# Altium footprint library Adafruit PyGamer.PCBLIB: 205 footprints (part 11 of 13)
Each footprint in its own frame and in the unit in brackets; x right, y up, seen from the top. Pads: shape width x height; smd on the part's side, far side on the other; paste and mask are expansions set on the pad; w line width, h text height; cw(c..) or ccw(c..) is an arc to the next point about the centre after c.
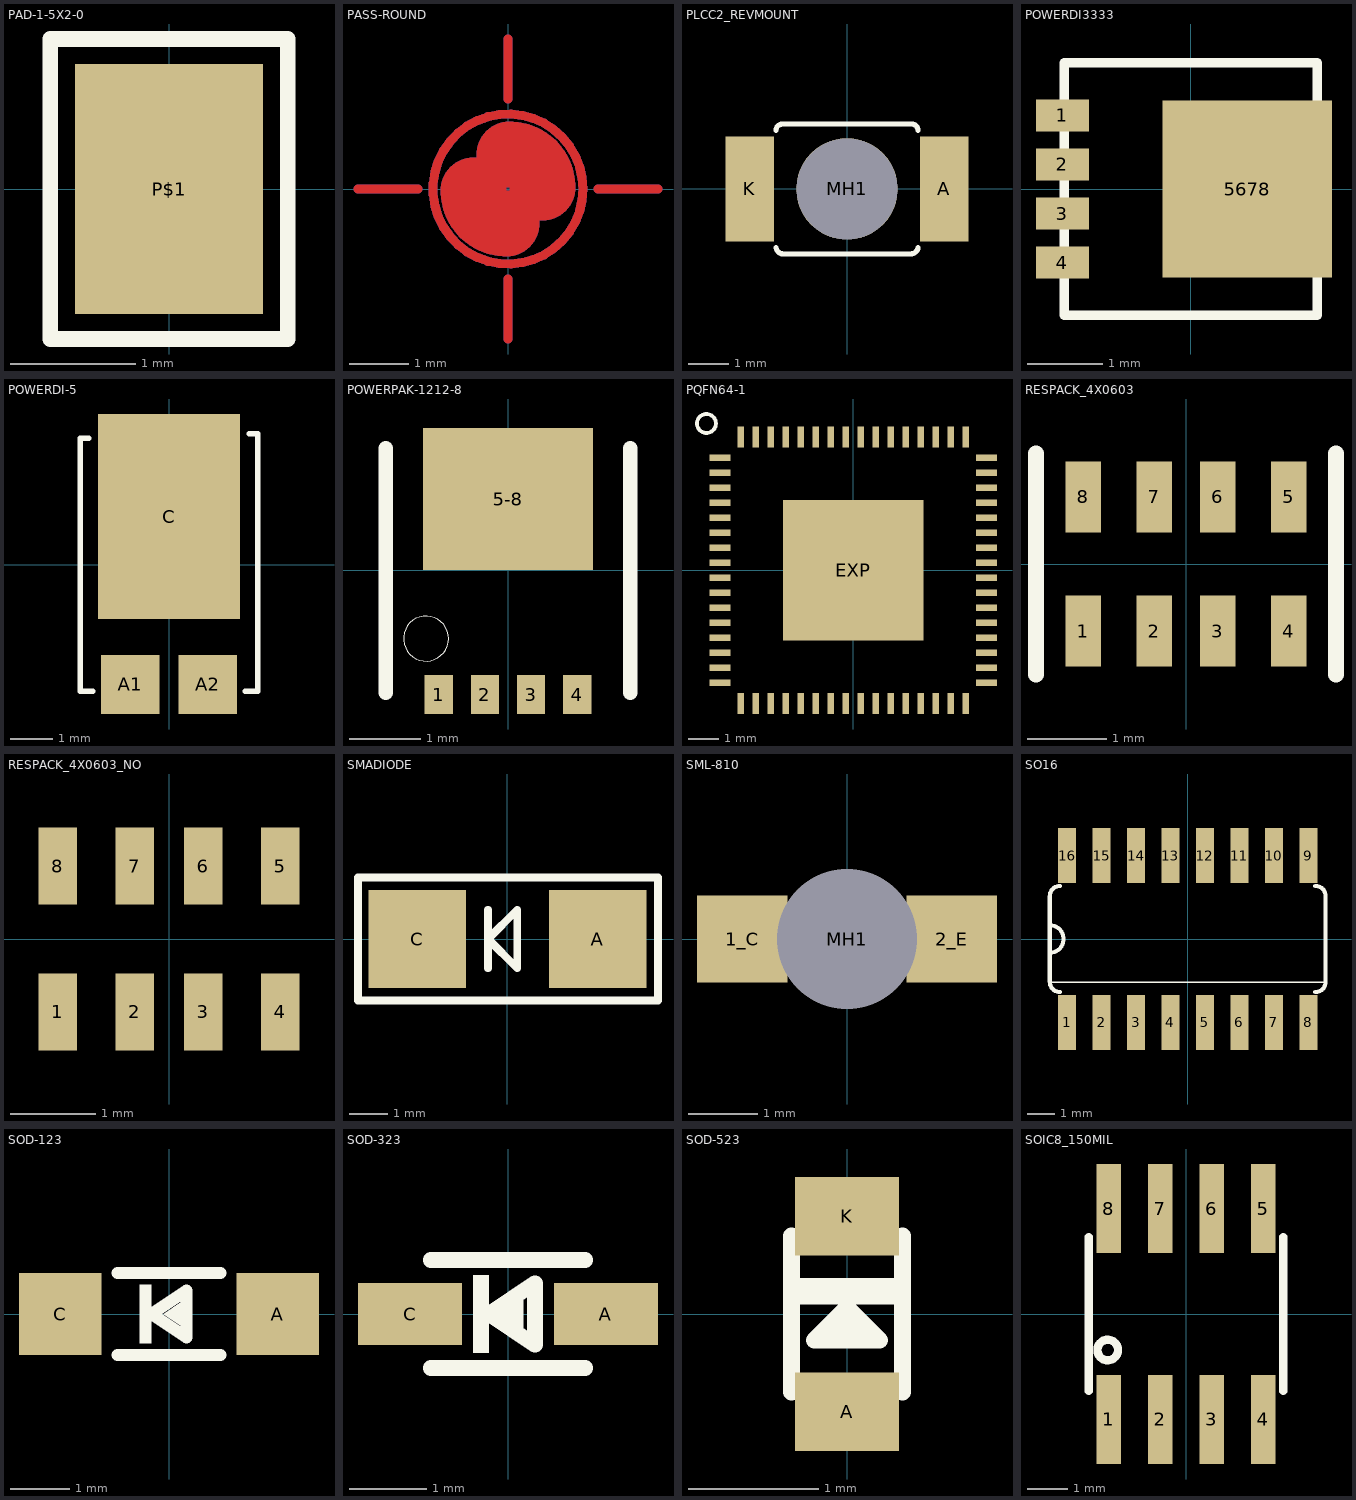
[diagram p10: the footprints below, top view; thin cyan lines are the x and y axes]

## PAD-1-5X2-0 [mm]
pads (1):
  rect 1.5x2 smd paste+0: P$1(0,0)
Top Overlay:
  lines w0.127: -0.95,-1.2 0.95,-1.2 0.95,1.2 -0.95,1.2 -0.95,-1.2

## PASS-ROUND [mil]
Top:
  circle w6: c0,0 r50
  lines w6: -100,0 -60,0 ; 0,-100 0,-60 ; 0,60 0,100 ; 60,0 100,0
  lines w44: -23,-1 ccw(c-1,-1) -1,-23 ; 1,23 cw(c1,1) 23,1
Bottom:
  circle w6: c0,0 r50
  lines w6: -100,0 -60,0 ; 0,-100 0,-60 ; 0,60 0,100 ; 60,0 100,0
  lines w44: -23,-1 ccw(c-1,-1) -1,-23 ; 1,23 cw(c1,1) 23,1

## PLCC2_REVMOUNT [mil]
pads (3):
  rect 47.24x102.36 smd: A(94.49,0) K(-94.49,0)
  round 98.43 hole 98.43 unplated: MH1(0,0)
Top Overlay:
  lines w5: -68.9,-57.09 ccw(c-62.01,-56.1) -61.02,-62.99 61.02,-62.99 ccw(c62.01,-56.1) 68.9,-57.09 ; -68.9,57.09 cw(c-62.99,57.09) -62.99,62.99 62.99,62.99 cw(c62.99,57.09) 68.9,57.09
Bottom Overlay:
  circle w5: c0,0 r48.06
  lines w5: -66.93,-45.28 -66.93,-49.21 ccw(c-57.09,-49.22) -57.09,-59.06 57.09,-59.06 ccw(c57.09,-49.22) 66.93,-49.21 66.93,-45.28 ; -66.93,-45.28 -104.33,-45.28 -104.33,45.28 -66.93,45.28 ; -66.93,-45.28 -66.93,-25.59 ; -66.93,-25.59 -66.93,25.59 ; -66.93,-25.59 -68.9,-25.59 cw(c-68.89,-21.66) -72.83,-21.65 -72.83,19.69 cw(c-66.93,19.69) -66.93,25.59 ; -66.93,25.59 -66.93,29.53 ; -66.93,29.53 -66.93,45.28 ; -66.93,29.53 -37.4,59.06 ; -66.93,45.28 -66.93,51.18 cw(c-59.05,51.19) -59.06,59.06 -37.4,59.06 ; -37.4,59.06 59.06,59.06 cw(c59.05,51.19) 66.93,51.18 66.93,45.28 ; 66.93,-45.28 106.3,-45.28 106.3,45.28 66.93,45.28 ; 66.93,-45.28 66.93,-25.59 ; 66.93,-25.59 66.93,25.59 ; 66.93,-25.59 ccw(c66.93,-19.69) 72.83,-19.69 72.83,21.65 ccw(c68.89,21.66) 68.9,25.59 66.93,25.59 ; 66.93,25.59 66.93,45.28 ; -31.5,0 ccw(c0,0) 0,-31.5 ccw(c0,0) 31.5,0 ccw(c0,0) 0,31.5 ccw(c0,0) -31.5,0

## POWERDI3333 [mm]
pads (5):
  rect 0.7x0.42 smd: 1(-1.7,0.975) 2(-1.7,0.325) 3(-1.7,-0.325) 4(-1.7,-0.975)
  rect 2.25x2.35 smd: 5678(0.75,0)
Top Overlay:
  lines w0.127: -1.675,-1.675 1.675,-1.675 1.675,1.675 -1.675,1.675 -1.675,-1.675

## POWERDI-5 [mm]
pads (3):
  rect 1.39x1.4 smd: A1(-0.92,-2.84) A2(0.92,-2.84)
  rect 3.36x4.86 smd: C(0,1.142)
Top Overlay:
  lines w0.127: -1.9,3 -2.1,3 -2.1,-3 -1.8,-3 ; 1.8,-3 2.1,-3 2.1,3.1 1.9,3.1
Bottom Overlay:
  region: -1.6,2 -1.6,2.4 1.6,2.4 1.6,2
  region: -1.5,-0.6 0,1.9 1.5,-0.6
  lines w0.127: -2,-3.25 2,-3.25 2,3.25 -2,3.25 -2,-3.25

## POWERPAK-1212-8 [mm]
pads (5):
  rect 0.4x0.55 smd: 1(-0.975,-1.75) 2(-0.325,-1.75) 3(0.325,-1.75) 4(0.975,-1.75)
  rect 2.4x2 smd: 5-8(0,1.005)
Top Overlay:
  circle w0: c-1.155,-0.961 r0.318
  lines w0.203: -1.725,-1.725 -1.725,1.725 ; 1.725,-1.725 1.725,1.725
Bottom Overlay:
  lines w0.203: -1.725,-1.725 1.725,-1.725 ; -1.725,1.725 1.725,1.725

## PQFN64-1 [mm]
pads (65):
  rect 0.7x0.22 smd: 1(-4.45,3.75) 2(-4.45,3.25) 3(-4.45,2.75) 4(-4.45,2.25) 5(-4.45,1.75) 6(-4.45,1.25) 7(-4.45,0.75) 8(-4.45,0.25) 9(-4.45,-0.25) 10(-4.45,-0.75) 11(-4.45,-1.25) 12(-4.45,-1.75) 13(-4.45,-2.25) 14(-4.45,-2.75) 15(-4.45,-3.25) 16(-4.45,-3.75) 33(4.45,-3.75) 34(4.45,-3.25) 35(4.45,-2.75) 36(4.45,-2.25) 37(4.45,-1.75) 38(4.45,-1.25) 39(4.45,-0.75) 40(4.45,-0.25) 41(4.45,0.25) 42(4.45,0.75) 43(4.45,1.25) 44(4.45,1.75) 45(4.45,2.25) 46(4.45,2.75) 47(4.45,3.25) 48(4.45,3.75)
  rect 0.22x0.7 smd: 17(-3.75,-4.45) 18(-3.25,-4.45) 19(-2.75,-4.45) 20(-2.25,-4.45) 21(-1.75,-4.45) 22(-1.25,-4.45) 23(-0.75,-4.45) 24(-0.25,-4.45) 25(0.25,-4.45) 26(0.75,-4.45) 27(1.25,-4.45) 28(1.75,-4.45) 29(2.25,-4.45) 30(2.75,-4.45) 31(3.25,-4.45) 32(3.75,-4.45) 49(3.75,4.45) 50(3.25,4.45) 51(2.75,4.45) 52(2.25,4.45) 53(1.75,4.45) 54(1.25,4.45) 55(0.75,4.45) 56(0.25,4.45) 57(-0.25,4.45) 58(-0.75,4.45) 59(-1.25,4.45) 60(-1.75,4.45) 61(-2.25,4.45) 62(-2.75,4.45) 63(-3.25,4.45) 64(-3.75,4.45)
  rect 4.7x4.7 smd paste+0: EXP(0,0)
Top Overlay:
  circle w0.127: c-4.9,4.9 r0.316
Bottom Overlay:
  circle w0: c-3.75,3.75 r0.25
  lines w0.203: -4.4,-4.4 -4.4,4.4 4.4,4.4 4.4,-4.4 -4.4,-4.4

## RESPACK_4X0603 [mil]
pads (8):
  rect 17.72x35.43 smd: 1(-51.18,-33.46) 2(-15.75,-33.46) 3(15.75,-33.46) 4(51.18,-33.46) 5(51.18,33.46) 6(15.75,33.46) 7(-15.75,33.46) 8(-51.18,33.46)
Top Overlay:
  lines w8: -74.8,-55.12 -74.8,55.12 ; 74.8,-55.12 74.8,55.12
Bottom Overlay:
  region: -61.02,-19.69 -61.02,19.69 61.02,19.69 61.02,-19.69
  lines w8: -62.99,-31.5 62.99,-31.5 62.99,31.5 -62.99,31.5 -62.99,-31.5

## RESPACK_4X0603_NO [mil]
pads (8):
  rect 17.72x35.43 smd: 1(-51.18,-33.46) 2(-15.75,-33.46) 3(15.75,-33.46) 4(51.18,-33.46) 5(51.18,33.46) 6(15.75,33.46) 7(-15.75,33.46) 8(-51.18,33.46)
Bottom Overlay:
  region: -61.02,-19.69 -61.02,19.69 61.02,19.69 61.02,-19.69
  lines w8: -62.99,-31.5 62.99,-31.5 62.99,31.5 -62.99,31.5 -62.99,-31.5

## SMADIODE [mil]
pads (2):
  rect 100x100 smd: A(92.5,0) C(-92.5,0)
Top Overlay:
  lines w8: -20,-30 -20,0 ; -20,30 -20,0 ; -20,0 10,-30 10,30 -20,0 ; -153.11,-62.99 -153.11,62.99 154.17,62.99 154.17,-62.99 -153.11,-62.99
Bottom Overlay:
  region: -111.22,-43.31 -111.22,43.31 -85.63,43.31 -85.63,-43.31
  region: 111.22,43.31 111.22,-43.31 85.63,-43.31 85.63,43.31
  region: -68.9,-48.23 -68.9,48.23 -42.32,48.23 -42.32,-48.23
  lines w8: -84.65,-51.18 84.65,-51.18 84.65,51.18 -84.65,51.18 -84.65,-51.18

## SML-810 [mm]
pads (3):
  rect 1.3x1.25 smd paste+0: 1_C(-1.5,0) 2_E(1.5,0)
  round 2 hole 2 unplated: MH1(0,0)
Bottom Overlay:
  text "C" at -2.1,-0.5 h1.57
  text "E" at 1.1,-0.5 h1.57

## SO16 [mil]
pads (16):
  rect 26x80 smd: 1(-175,-121) 2(-125,-121) 3(-75,-121) 4(-25,-121) 5(25,-121) 6(75,-121) 7(125,-121) 8(175,-121) 9(175,121) 10(125,121) 11(75,121) 12(25,121) 13(-25,121) 14(-75,121) 15(-125,121) 16(-175,121)
Top Overlay:
  lines w2: -200,-63 200,-63
  lines w6: -185,-77 cw(c-185,-62) -200,-62 -200,-20 ; -185,77 ccw(c-185,62) -200,62 -200,20 ; 185,-77 ccw(c185,-62) 200,-62 200,62 ccw(c185,62) 185,77 ; -200,-20 -200,20 ; -200,-20 ccw(c-200,0) -200,20
Bottom Overlay:
  region: -35,77 -35,122 -15,122 -15,77
  region: -185,-122 -185,-77 -165,-77 -165,-122
  region: -135,-122 -135,-77 -115,-77 -115,-122
  region: -85,-121 -85,-76 -65,-76 -65,-121
  region: -35,-122 -35,-77 -15,-77 -15,-122
  region: -85,77 -85,122 -65,122 -65,77
  region: -135,77 -135,122 -115,122 -115,77
  region: -185,77 -185,122 -165,122 -165,77
  region: 15,-122 15,-77 35,-77 35,-122
  region: 65,-122 65,-77 85,-77 85,-122
  region: 115,-122 115,-77 135,-77 135,-122
  region: 165,-122 165,-77 185,-77 185,-122
  region: 15,77 15,122 35,122 35,77
  region: 65,77 65,122 85,122 85,77
  region: 115,77 115,122 135,122 135,77
  region: 165,77 165,122 185,122 185,77
  lines w6: -185,-77 185,-77 ; -185,77 185,77

## SOD-123 [mil]
pads (2):
  rect 55.12x55.12 smd: A(72.83,0) C(-72.83,0)
Top Overlay:
  region: -19.69,-19.69 -19.69,19.69 -11.81,19.69 -11.81,-19.69
  region: -3.94,0 7.87,7.87 7.87,-7.87
  lines w8: -34.37,-27.56 34.37,-27.56 ; -34.37,27.56 34.37,27.56 ; -11.81,0 11.81,15.75 11.81,-15.75 -11.81,0
Bottom Overlay:
  region: -67.83,-17.72 -67.83,15.75 -38.31,15.75 -38.31,-17.72
  region: 38.31,-17.72 38.31,15.75 67.83,15.75 67.83,-17.72
  lines w8: -34.37,-27.56 -34.37,27.56 ; 34.37,-27.56 34.37,27.56

## SOD-323 [mil]
pads (2):
  rect 53.15x31.5 smd: A(50,0) C(-50,0)
Top Overlay:
  region: -17.72,-19.69 -17.72,19.69 -9.84,19.69 -9.84,-19.69
  region: -3.94,0 7.87,7.87 7.87,-7.87
  lines w8: -39.37,-27.56 39.37,-27.56 ; -39.37,27.56 39.37,27.56 ; -9.84,0 13.78,15.75 13.78,-15.75 -9.84,0
Bottom Overlay:
  lines w8: -39.37,-27.56 -39.37,27.56 ; 39.37,-27.56 39.37,27.56

## SOD-523 [mil]
pads (2):
  rect 31.5x23.62 smd: A(0,-29.53) K(0,29.53)
Top Overlay:
  region: -15.74,10.81 15.74,10.81 15.74,2.94 -15.74,2.94
  region: 0,1.97 9.84,-7.87 -9.84,-7.87
  lines w5: -16.75,-23.62 -16.75,23.62 ; 16.75,-23.62 16.75,23.62 ; -9.84,-7.87 9.84,-7.87 0,1.97 -9.84,-7.87
Bottom Overlay:
  region: -7.87,29.53 7.87,29.53 7.87,21.65 -7.87,21.65
  region: -7.87,-21.65 7.87,-21.65 7.87,-29.53 -7.87,-29.53
  lines w5: -15.75,-23.62 15.75,-23.62 ; -15.75,23.62 15.75,23.62

## SOIC8_150MIL [mil]
pads (8):
  rect 23.62x86.61 smd: 1(-75,-102.36) 2(-25,-102.36) 3(25,-102.36) 4(75,-102.36) 5(75,102.36) 6(25,102.36) 7(-25,102.36) 8(-75,102.36)
Top Overlay:
  circle w8: c-76,-35 r10
  lines w8: -94.49,-74.8 -94.49,74.8 ; 94.49,-74.8 94.49,74.8
Bottom Overlay:
  region: -84.65,-122.05 -84.65,-78.74 -65.35,-78.74 -65.35,-122.05
  region: -34.65,-122.05 -34.65,-78.74 -15.35,-78.74 -15.35,-122.05
  region: 15.35,-122.05 15.35,-78.74 34.65,-78.74 34.65,-122.05
  region: 65.35,-122.05 65.35,-78.74 84.65,-78.74 84.65,-122.05
  region: 65.35,78.74 65.35,122.05 84.65,122.05 84.65,78.74
  region: 15.35,78.74 15.35,122.05 34.65,122.05 34.65,78.74
  region: -34.65,78.74 -34.65,122.05 -15.35,122.05 -15.35,78.74
  region: -84.65,78.74 -84.65,122.05 -65.35,122.05 -65.35,78.74
  lines w8: -94.49,-55.12 -94.49,-74.8 94.49,-74.8 94.49,-55.12 ; -94.49,-55.12 -94.49,74.8 94.49,74.8 94.49,-55.12 ; -94.49,-55.12 94.49,-55.12